# Altium schematic symbol library switch.SchLib: 1 symbol
Pins are listed as number, name and electrical type; pins without a type are passive.

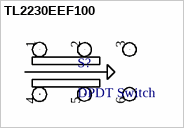
[diagram p0: symbol TL2230EEF100]

## TL2230EEF100
designator S?, comment DPDT Switch
footprint TL2230EEF100 (SWITCH PUSHBUTTON DPDT 0.1A 30V)
pins: 1 "12v", 2 "12v", 3 "12v", 4 "12v", 5 "12v", 6 "12v"